# Altium schematic symbol library Fiducial-1mm.SchLib: 1 symbol
Pins are listed as number, name and electrical type; pins without a type are passive.

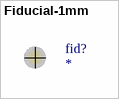
[diagram p0: symbol Fiducial-1mm]

## Fiducial-1mm
designator fid?